# EAGLE library part J20 (library tidyeagle)
20 Pin Header 0.1" (2.54mm) spacing.
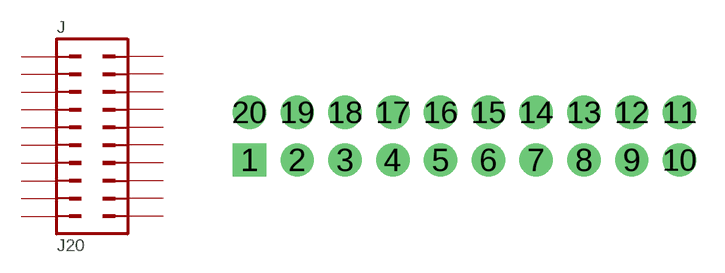
[diagram p30: symbol with the pads of J20-NOSILK; footprint J20-NOSILK]

Designator prefix J

## J20-NOSILK  [J20-NOSILK]
1  1
2  2
3  3
4  4
5  5
6  6
7  7
8  8
9  9
10  10
11  11
12  12
13  13
14  14
15  15
16  16
17  17
18  18
19  19
20  20

## Footprint J20-NOSILK (pad centres in mm)
drill 1 pad 1.778 square: 1 0,0
drill 1 pad 1.778: 2 2.54,0; 3 5.08,0; 4 7.62,0; 5 10.16,0; 6 12.7,0; 7 15.24,0; 8 17.78,0; 9 20.32,0; 10 22.86,0; 11 22.86,2.54; 12 20.32,2.54; 13 17.78,2.54; 14 15.24,2.54; 15 12.7,2.54; 16 10.16,2.54; 17 7.62,2.54; 18 5.08,2.54; 19 2.54,2.54; 20 0,2.54